# EAGLE library part 1892ХД5Т (library transceivers)
АЕЯР.431260.921 ТУ 1892ХД5Т - спецстойкий малопотребляющий адаптер удаленных устройств с последовательным каналом SpaceWire с протоколом RMAP. Микросхема обеспечивает подключение датчиков, преобразователей информации, исполнительных устройств к высокопроизводительной помехоустойчивой сети передачи данных SpaceWire без использования дополнительных элементов. 1892ХД5Т может быть использован в электронных блоках космических аппаратов, авиационной и ракетной технике различного назначения.
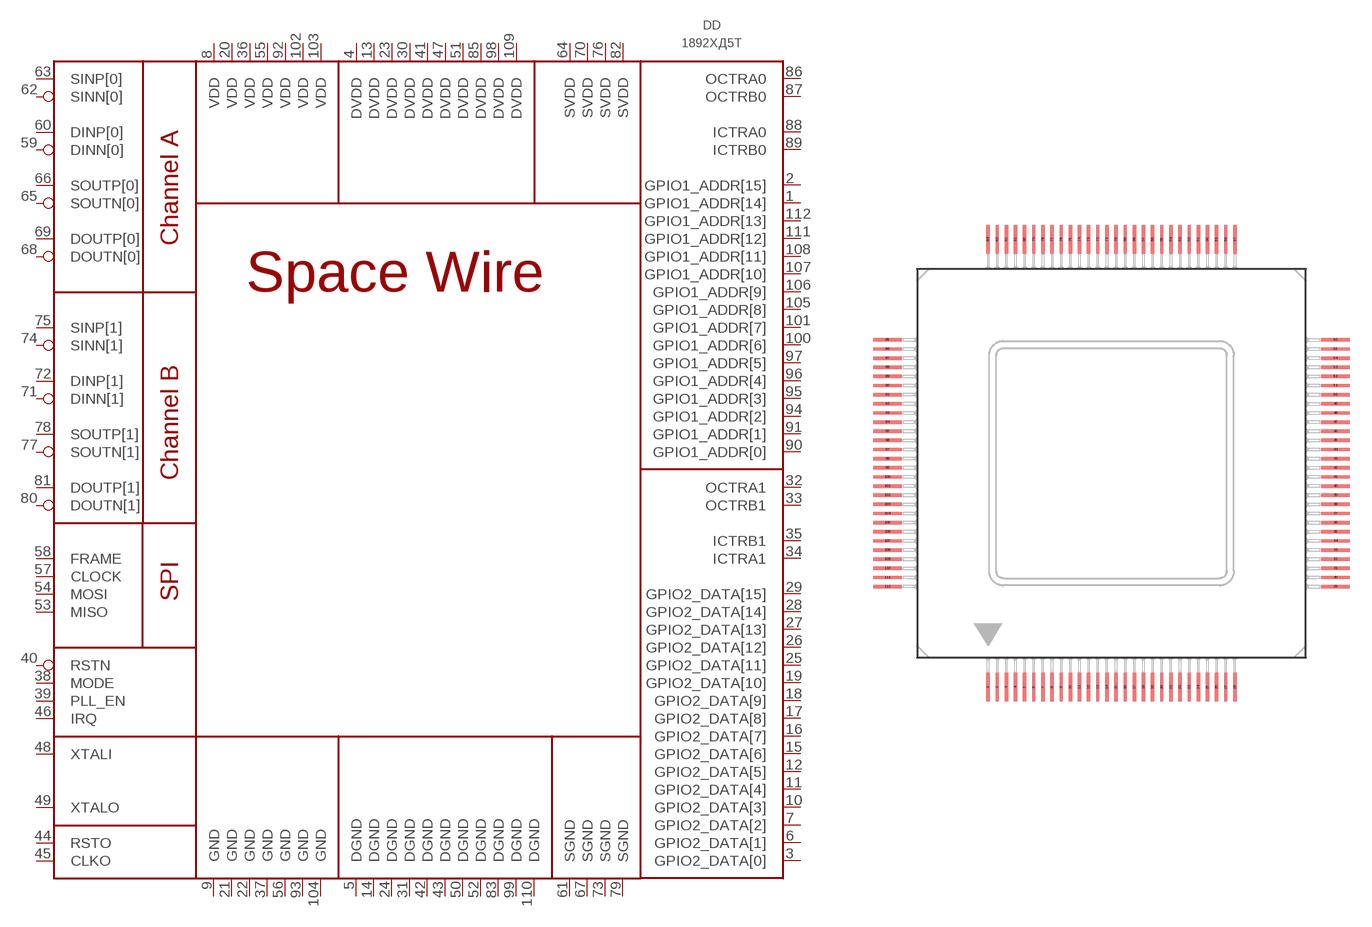
[diagram p6: symbol with the pads of 4233.112-А; footprint 4233.112-А]

Designator prefix DD

## 1892ХД5Т  [4233.112-А]
1  GPIO1_ADDR[14]
2  GPIO1_ADDR[15]
3  GPIO2_DATA[0]
4  DVDD  pwr
5  DGND  pwr
6  GPIO2_DATA[1]
7  GPIO2_DATA[2]
8  VDD  pwr
9  GND  pwr
10  GPIO2_DATA[3]
11  GPIO2_DATA[4]
12  GPIO2_DATA[5]
13  DVDD  pwr
14  DGND  pwr
15  GPIO2_DATA[6]
16  GPIO2_DATA[7]
17  GPIO2_DATA[8]
18  GPIO2_DATA[9]
19  GPIO2_DATA[10]
20  VDD  pwr
21  GND  pwr
22  GND  pwr
23  DVDD  pwr
24  DGND  pwr
25  GPIO2_DATA[11]
26  GPIO2_DATA[12]
27  GPIO2_DATA[13]
28  GPIO2_DATA[14]
29  GPIO2_DATA[15]
30  DVDD  pwr
31  DGND  pwr
32  OCTRA1  out
33  OCTRB1  out
34  ICTRA1  in
35  ICTRB1  in
36  VDD  pwr
37  GND  pwr
38  MODE  in
39  PLL_EN  in
40  RSTN  in
41  DVDD  pwr
42  DGND  pwr
43  DGND  pwr
44  RSTO  out
45  CLKO  out
46  IRQ  out
47  DVDD  pwr
48  XTALI  in
49  XTALO  out
50  DGND  pwr
51  DVDD  pwr
52  DGND  pwr
53  MISO  out
54  MOSI  in
55  VDD  pwr
56  GND  pwr
57  CLOCK  in
58  FRAME  in
59  DINN[0]  in
60  DINP[0]  in
61  SGND  pwr
62  SINN[0]  in
63  SINP[0]  in
64  SVDD  pwr
65  SOUTN[0]  out
66  SOUTP[0]  out
67  SGND  pwr
68  DOUTN[0]  out
69  DOUTP[0]  out
70  SVDD  pwr
71  DINN[1]  in
72  DINP[1]  in
73  SGND  pwr
74  SINN[1]  in
75  SINP[1]  in
76  SVDD  pwr
77  SOUTN[1]  out
78  SOUTP[1]  out
79  SGND  pwr
80  DOUTN[1]  out
81  DOUTP[1]  out
82  SVDD  pwr
83  DGND  pwr
85  DVDD  pwr
86  OCTRA0
87  OCTRB0  out
88  ICTRA0  in
89  ICTRB0  in
90  GPIO1_ADDR[0]
91  GPIO1_ADDR[1]
92  VDD  pwr
93  GND  pwr
94  GPIO1_ADDR[2]
95  GPIO1_ADDR[3]
96  GPIO1_ADDR[4]
97  GPIO1_ADDR[5]
98  DVDD  pwr
99  DGND  pwr
100  GPIO1_ADDR[6]
101  GPIO1_ADDR[7]
102  VDD  pwr
103  VDD  pwr
104  GND  pwr
105  GPIO1_ADDR[8]
106  GPIO1_ADDR[9]
107  GPIO1_ADDR[10]
108  GPIO1_ADDR[11]
109  DVDD  pwr
110  DGND  pwr
111  GPIO1_ADDR[12]
112  GPIO1_ADDR[13]

## Footprint 4233.112-А (pad centres in mm)
smd 0.229 x 2: 1 -8.572,-15.557; 2 -7.938,-15.557; 3 -7.303,-15.557; 4 -6.668,-15.557; 5 -6.032,-15.557; 6 -5.397,-15.557; 7 -4.763,-15.557; 8 -4.128,-15.557; 9 -3.493,-15.557; 10 -2.857,-15.557; 11 -2.223,-15.557; 12 -1.587,-15.557; 13 -0.953,-15.557; 14 -0.318,-15.557; 15 0.318,-15.557; 16 0.953,-15.557; 17 1.587,-15.557; 18 2.223,-15.557; 19 2.857,-15.557; 20 3.493,-15.557; 21 4.128,-15.557; 22 4.763,-15.557; 23 5.397,-15.557; 24 6.032,-15.557; 25 6.668,-15.557; 26 7.303,-15.557; 27 7.938,-15.557; 28 8.572,-15.557; 57 8.572,15.557; 58 7.938,15.557; 59 7.303,15.557; 60 6.668,15.557; 61 6.032,15.557; 62 5.397,15.557; 63 4.763,15.557; 64 4.128,15.557; 65 3.493,15.557; 66 2.857,15.557; 67 2.223,15.557; 68 1.587,15.557; 69 0.953,15.557; 70 0.318,15.557; 71 -0.318,15.557; 72 -0.953,15.557; 73 -1.587,15.557; 74 -2.223,15.557; 75 -2.857,15.557; 76 -3.493,15.557; 77 -4.128,15.557; 78 -4.763,15.557; 79 -5.397,15.557; 80 -6.032,15.557; 81 -6.668,15.557; 82 -7.303,15.557; 83 -7.938,15.557; 84 -8.572,15.557
smd 2 x 0.229: 29 15.557,-8.572; 30 15.557,-7.938; 31 15.557,-7.303; 32 15.557,-6.668; 33 15.557,-6.032; 34 15.557,-5.397; 35 15.557,-4.763; 36 15.557,-4.128; 37 15.557,-3.493; 38 15.557,-2.857; 39 15.557,-2.223; 40 15.557,-1.587; 41 15.557,-0.953; 42 15.557,-0.318; 43 15.557,0.318; 44 15.557,0.953; 45 15.557,1.587; 46 15.557,2.223; 47 15.557,2.857; 48 15.557,3.493; 49 15.557,4.128; 50 15.557,4.763; 51 15.557,5.397; 52 15.557,6.032; 53 15.557,6.668; 54 15.557,7.303; 55 15.557,7.938; 56 15.557,8.572; 85 -15.557,8.572; 86 -15.557,7.938; 87 -15.557,7.303; 88 -15.557,6.668; 89 -15.557,6.032; 90 -15.557,5.397; 91 -15.557,4.763; 92 -15.557,4.128; 93 -15.557,3.493; 94 -15.557,2.857; 95 -15.557,2.223; 96 -15.557,1.587; 97 -15.557,0.953; 98 -15.557,0.318; 99 -15.557,-0.318; 100 -15.557,-0.953; 101 -15.557,-1.587; 102 -15.557,-2.223; 103 -15.557,-2.857; 104 -15.557,-3.493; 105 -15.557,-4.128; 106 -15.557,-4.763; 107 -15.557,-5.397; 108 -15.557,-6.032; 109 -15.557,-6.668; 110 -15.557,-7.303; 111 -15.557,-7.938; 112 -15.557,-8.572